# Altium schematic symbol library M24C16-DRMF3TG.Schlib: 1 symbol
Pins are listed as number, name and electrical type; pins without a type are passive.

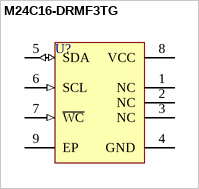
[diagram p0: symbol M24C16-DRMF3TG]

## M24C16-DRMF3TG
designator U?
16 Kbits EEPROM
pins: 1 NC, 2 NC, 3 NC, 4 GND (power), 5 SDA (io), 6 SCL (in), 7 ~{WC} (in), 8 VCC (power), 9 EP